# Altium footprint library TAC-SW-6X6MM.PcbLib: 1 footprints
Each footprint in its own frame and in the unit in brackets; x right, y up, seen from the top. Pads: shape width x height; smd on the part's side, far side on the other; paste and mask are expansions set on the pad; w line width, h text height; cw(c..) or ccw(c..) is an arc to the next point about the centre after c.
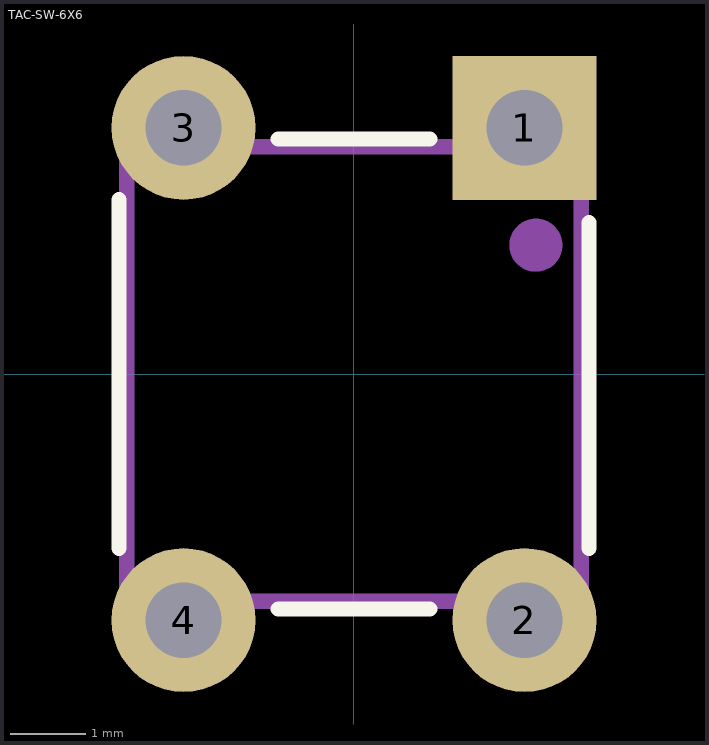
[diagram p0: the footprint, top view; thin cyan lines are the x and y axes]

## TAC-SW-6X6 [mm]
pads (4):
  rect 1.9x1.9 hole 1: 1(2.25,3.25)
  round 1.9 hole 1: 2(2.25,-3.25) 3(-2.25,3.25) 4(-2.25,-3.25)
Top Overlay:
  lines w0.2: -3.1,-2.3 -3.1,2.3 ; -1,-3.1 1,-3.1 ; -1,3.1 1,3.1 ; 3.1,-2.3 3.1,2
Mechanical 29:
  circle w0.5: c2.4,1.7 r0.1
  lines w0.2: -3,-3 3,-3 3,3 -3,3 -3,-3
  text ".Designator" at -2.5,-0.6 h1.6
3D body "FSM4JLH(1825910-5).step": height 5, standoff -3.51, extent -2.995,-3.898 2.995,3.9